# Altium footprint library B82559A0142A013.PcbLib: 1 footprints
Each footprint in its own frame and in the unit in brackets; x right, y up, seen from the top. Pads: shape width x height; smd on the part's side, far side on the other; paste and mask are expansions set on the pad; w line width, h text height; cw(c..) or ccw(c..) is an arc to the next point about the centre after c.
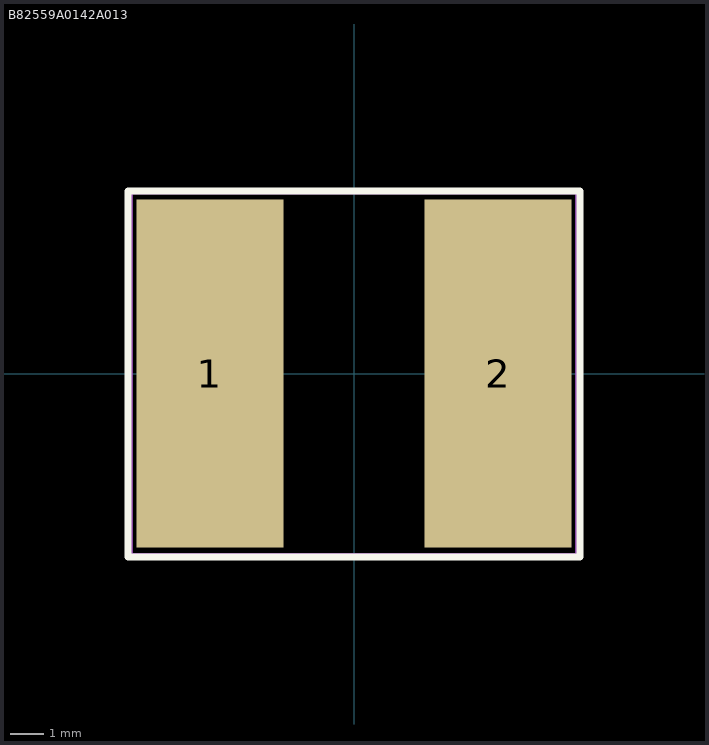
[diagram p0: the footprint, top view; thin cyan lines are the x and y axes]

## B82559A0142A013 [mm]
height 0.95
pads (2):
  rect 4.4x10.4 smd: 1(-4.3,0) 2(4.3,0)
Top Overlay:
  lines w0.2: -6.75,-5.475 6.75,-5.475 6.75,5.45 -6.75,5.45 -6.75,-5.475
Top Assembly:
  lines w0.15: -6.675,-5.425 -6.675,5.425 6.675,5.425 6.675,-5.425 -6.675,-5.425
  text "'.Designator'" at -0.675,-0.375 h0.8
3D body "B82559A0142A013.stp": height 6, standoff 0, extent -6.5,-5.35 6.5,5.35